# Altium footprint library SSOP-28.PcbLib: 1 footprints
Each footprint in its own frame and in the unit in brackets; x right, y up, seen from the top. Pads: shape width x height; smd on the part's side, far side on the other; paste and mask are expansions set on the pad; w line width, h text height; cw(c..) or ccw(c..) is an arc to the next point about the centre after c.
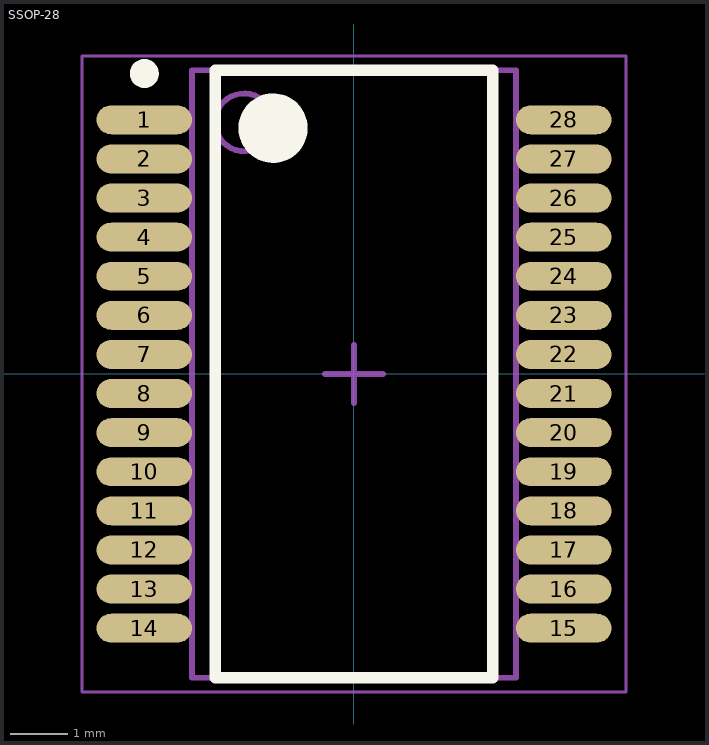
[diagram p0: the footprint, top view; thin cyan lines are the x and y axes]

## SSOP-28 [mm] "FT232RL"
height 2
pads (28):
  oval 1.65x0.5 smd: 1(-3.625,4.394) 2(-3.625,3.718) 3(-3.625,3.042) 4(-3.625,2.366) 5(-3.625,1.69) 6(-3.625,1.014) 7(-3.625,0.338) 8(-3.625,-0.338) 9(-3.625,-1.014) 10(-3.625,-1.69) 11(-3.625,-2.366) 12(-3.625,-3.042) 13(-3.625,-3.718) 14(-3.625,-4.394) 15(3.625,-4.394) 16(3.625,-3.718) 17(3.625,-3.042) 18(3.625,-2.366) 19(3.625,-1.69) 20(3.625,-1.014) 21(3.625,-0.338) 22(3.625,0.338) 23(3.625,1.014) 24(3.625,1.69) 25(3.625,2.366) 26(3.625,3.042) 27(3.625,3.718) 28(3.625,4.394)
Top Overlay:
  circle w0.25: c-3.625,5.194 r0.125
  circle w0.6: c-1.4,4.25 r0.3
  lines w0.2: -2.4,-5.25 -2.4,5.25 2.4,5.25 2.4,-5.25 -2.4,-5.25
Mechanical 13:
  circle w0.1: c-1.9,4.35 r0.5
  lines w0.1: -2.8,-5.25 -2.8,5.25 2.8,5.25 2.8,-5.25 -2.8,-5.25
Mechanical 15:
  lines w0.05: -4.7,-5.5 -4.7,5.5 4.7,5.5 4.7,-5.5 -4.7,-5.5
  lines w0.1: -0.5,0 0.5,0 ; 0,-0.5 0,0.5
3D body: height 2, standoff 0.05, extent -2.8,-5.25 2.8,5.25